# Altium footprint library ANT_868-960MHZ_7488910092.PcbLib: 1 footprints
Each footprint in its own frame and in the unit in brackets; x right, y up, seen from the top. Pads: shape width x height; smd on the part's side, far side on the other; paste and mask are expansions set on the pad; w line width, h text height; cw(c..) or ccw(c..) is an arc to the next point about the centre after c.
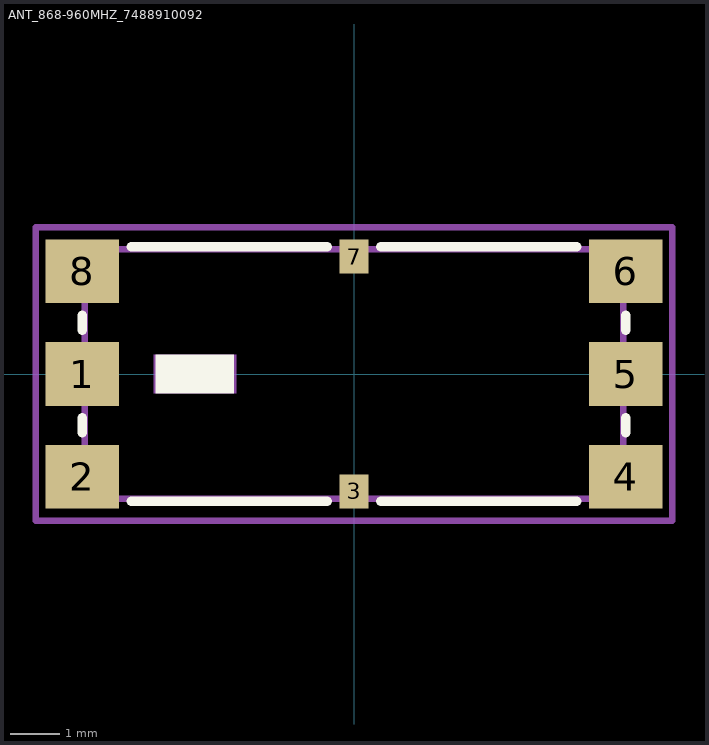
[diagram p0: the footprint, top view; thin cyan lines are the x and y axes]

## ANT_868-960MHZ_7488910092 [mm]
pads (8):
  rect 1.5x1.3 smd: 1(-5.55,0) 2(-5.55,-2.1) 4(5.55,-2.1) 5(5.55,0) 6(5.55,2.1) 8(-5.55,2.1)
  rect 0.6x0.7 smd: 3(0,-2.4) 7(0,2.4)
Top Overlay:
  rectangle: -4.05,-0.4 -2.45,0.4
  lines w0.2: -5.55,-1.2 -5.55,-0.9 ; -5.55,0.9 -5.55,1.2 ; -4.55,-2.6 -0.55,-2.6 ; -4.55,2.6 -0.55,2.6 ; 0.55,-2.6 4.55,-2.6 ; 0.55,2.6 4.55,2.6 ; 5.55,-1.2 5.55,-0.9 ; 5.55,0.9 5.55,1.2
Mechanical 13:
  lines w0.127: -5.5,-2.55 -5.5,2.55 5.5,2.55 5.5,-2.55 -5.5,-2.55
Mechanical 15:
  rectangle: -4.1,-0.4 -2.4,0.4
  lines w0.127: -6.5,-3 -6.5,3 6.5,3 6.5,-3 -6.5,-3
Mechanical 17:
  text ".Designator" at -0.8,-0.6 h1.27
Mechanical 19:
  text "'.Comment'" at -1.626,-0.584 h1.27
3D body "45797.stp": height 1.5, standoff 0, extent -5.5,-2.55 5.5,2.55